# EAGLE library part 74HC139N (library NXP_By_element14_Batch_1)
Dual 2-to-4 line decoder/demultiplexer
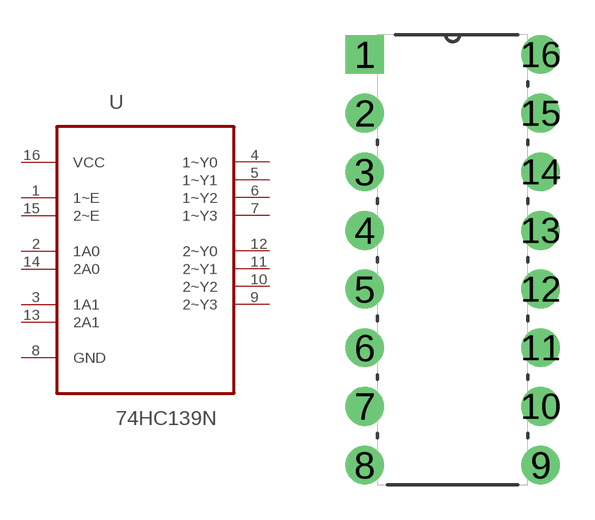
[diagram p36: symbol with the pads of DIP254P762X420-16; footprint DIP254P762X420-16]

Designator prefix U

## 74HC139N (MPN: 74HC139N; OC_FARNELL: 380556; OC_NEWARK: 07WX3674; P1I: o; PACKAGE: DIP-16; SUPPLIER: NXP)  [DIP254P762X420-16]
1  1~E  in
2  1A0  in
3  1A1  in
4  1~Y0  out
5  1~Y1  out
6  1~Y2  out
7  1~Y3  out
8  GND  pas
9  2~Y3  out
10  2~Y2  out
11  2~Y1  out
12  2~Y0  out
13  2A1  in
14  2A0  in
15  2~E  in
16  VCC  pwr

## Footprint DIP254P762X420-16 (pad centres in mm)
drill 1.118 square: 1 -7.62,17.78
drill 1.118: 2 -7.62,15.24; 3 -7.62,12.7; 4 -7.62,10.16; 5 -7.62,7.62; 6 -7.62,5.08; 7 -7.62,2.54; 8 -7.62,0; 9 0,0; 10 0,2.54; 11 0,5.08; 12 0,7.62; 13 0,10.16; 14 0,12.7; 15 0,15.24; 16 0,17.78